# Altium footprint library pth-misc.PcbLib: 7 footprints
Each footprint in its own frame and in the unit in brackets; x right, y up, seen from the top. Pads: shape width x height; smd on the part's side, far side on the other; paste and mask are expansions set on the pad; w line width, h text height; cw(c..) or ccw(c..) is an arc to the next point about the centre after c.
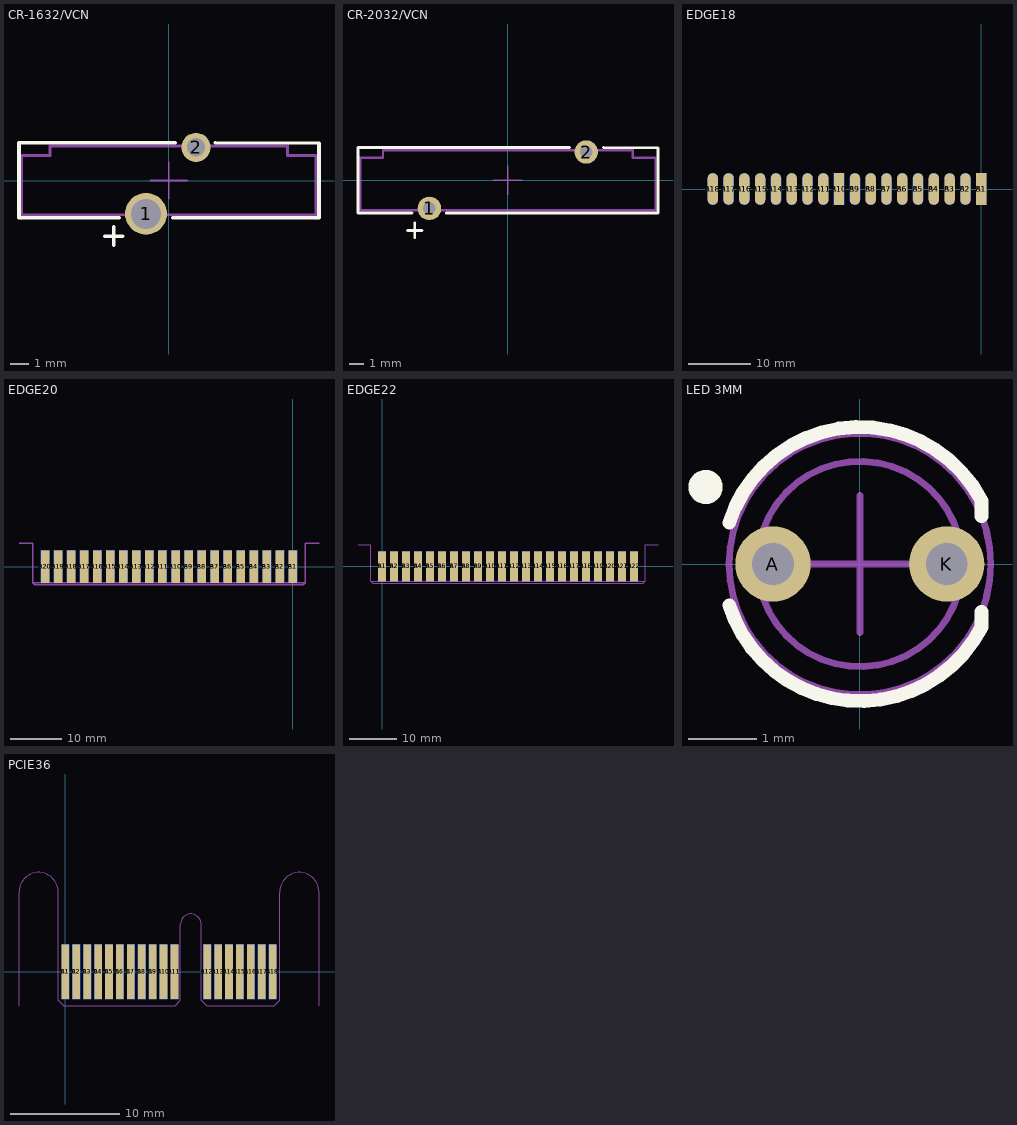
[diagram p0: the footprints below, top view; thin cyan lines are the x and y axes]

## CR-1632/VCN [mm] "PTH Battery 16mm Vertical"
height 16
pads (2):
  round 2.3 hole 1.65: 1(-1.25,-1.825)
  round 1.6 hole 1: 2(1.5,1.825)
Top Overlay:
  lines w0.2: -3.525,-3.05 -2.525,-3.05 ; -3.025,-3.55 -3.025,-2.55 ; -2.725,-2.05 -8.225,-2.05 -8.225,2.075 0.35,2.075 ; 0.225,-2.05 8.25,-2.05 8.25,2.05 2.55,2.086
Mechanical 1:
  lines w0.1: -8.05,-1.85 -8.05,1.35 -6.5,1.35 -6.5,1.875 6.5,1.875 6.5,1.35 8.05,1.35 8.05,-1.85 -8.05,-1.85
Mechanical 13:
  lines w0.1: -1,0 1,0 ; 0,-1 0,1
Mechanical 15:
  lines w0.1: -8.175,-1.9 8.125,-1.9 ; -8.1,-2.075 -8.1,1.4 -6.55,1.4 -6.55,1.925 6.55,1.925 6.55,1.4 8.1,1.4 8.1,-2.075
  text ".Designator" at -2.9,-0.4 h1
3D body "User Library-CR-1632.STEP": height 17.21, standoff -3.3, extent -8.01,-1.85 8.01,1.85

## CR-2032/VCN [mm] "PTH Battery 20mm Vertical"
height 25
pads (2):
  round 1.6 hole 0.85: 1(-5.35,-1.925) 2(5.35,1.925)
Top Overlay:
  lines w0.2: -10.225,-2.225 -6.525,-2.225 ; -10.225,-2.2 -10.225,2.225 4.2,2.225 ; -6.85,-3.425 -5.85,-3.425 ; -6.35,-3.925 -6.35,-2.925 ; -4.2,-2.225 10.25,-2.225 10.25,2.2 6.525,2.224
Mechanical 1:
  lines w0.1: -10.05,-2.025 -10.05,1.5 -8.5,1.5 -8.5,2.025 8.5,2.025 8.5,1.5 10.05,1.5 10.05,-2.025 -10.05,-2.025
Mechanical 13:
  lines w0.1: -1,0 1,0 ; 0,-1 0,1
Mechanical 15:
  lines w0.1: -10.1,-2.075 10.1,-2.075 10.1,1.55 8.55,1.55 8.55,2.075 -8.55,2.075 -8.55,1.55 -10.1,1.55 -10.1,-2.075
  text ".Designator" at -2.9,-0.4 h1
3D body "User Library-CR2032-VCN.STEP": height 22.01, standoff -4.51, extent -10.01,-2.025 10.01,2.025

## EDGE18 [mil]
pads (36):
  rect 65x200 smd: A1(0,0) A10(-900,0)
  oval 65x200 smd: A2(-100,0) A3(-200,0) A4(-300,0) A5(-400,0) A6(-500,0) A7(-600,0) A8(-700,0) A9(-800,0) A11(-1000,0) A12(-1100,0) A13(-1200,0) A14(-1300,0) A15(-1400,0) A16(-1500,0) A17(-1600,0) A18(-1700,0)
  rect 65x200 smd far side: B1(0,0) B10(-900,0)
  oval 65x200 smd far side: B2(-100,0) B3(-200,0) B4(-300,0) B5(-400,0) B6(-500,0) B7(-600,0) B8(-700,0) B9(-800,0) B11(-1000,0) B12(-1100,0) B13(-1200,0) B14(-1300,0) B15(-1400,0) B16(-1500,0) B17(-1600,0) B18(-1700,0)

## EDGE20 [mil]
pads (40):
  rect 65x250 smd: A1(0,0) A2(-100,0) A3(-200,0) A4(-300,0) A5(-400,0) A6(-500,0) A7(-600,0) A8(-700,0) A9(-800,0) A10(-900,0) A11(-1000,0) A12(-1100,0) A13(-1200,0) A14(-1300,0) A15(-1400,0) A16(-1500,0) A17(-1600,0) A18(-1700,0) A19(-1800,0) A20(-1900,0)
  rect 65x250 smd far side: B1(0,0) B2(-100,0) B3(-200,0) B4(-300,0) B5(-400,0) B6(-500,0) B7(-600,0) B8(-700,0) B9(-800,0) B10(-900,0) B11(-1000,0) B12(-1100,0) B13(-1200,0) B14(-1300,0) B15(-1400,0) B16(-1500,0) B17(-1600,0) B18(-1700,0) B19(-1800,0) B20(-1900,0)
Mechanical 13:
  lines w10: -2100,180 -1993,180 -1993,-125 ; 200,180 93,180 93,-125 ; -1993,-125 93,-125 ; -1993,-125 -1978,-140 78,-140 93,-125

## EDGE22 [mil] "Card Edge 22 Positions"
pads (44):
  rect 65x250 smd: A1(0,0) A2(100,0) A3(200,0) A4(300,0) A5(400,0) A6(500,0) A7(600,0) A8(700,0) A9(800,0) A10(900,0) A11(1000,0) A12(1100,0) A13(1200,0) A14(1300,0) A15(1400,0) A16(1500,0) A17(1600,0) A18(1700,0) A19(1800,0) A20(1900,0) A21(2000,0) A22(2100,0)
  rect 65x250 smd far side: B1(0,0) B2(100,0) B3(200,0) B4(300,0) B5(400,0) B6(500,0) B7(600,0) B8(700,0) B9(800,0) B10(900,0) B11(1000,0) B12(1100,0) B13(1200,0) B14(1300,0) B15(1400,0) B16(1500,0) B17(1600,0) B18(1700,0) B19(1800,0) B20(1900,0) B21(2000,0) B22(2100,0)
Mechanical 13:
  lines w10: -200,180 -93,180 -93,-125 -78,-140 2178,-140 2193,-125 ; -92.91,-125 2193,-125 ; 2300,180 2193,180 2193,-125

## LED 3MM [mm]
pads (2):
  round 1.1 hole 0.61: A(-1.27,0) K(1.27,0)
Top Overlay:
  circle w0.25: c-2.255,1.125 r0.125
  lines w0.2: -1.91,-0.603 ccw(c0,0) 1.776,-0.925 ; -1.91,0.603 cw(c0,0) 1.766,0.945 ; 1.775,-0.924 1.775,-0.7 ; 1.775,0.7 1.775,0.925
Mechanical 13:
  circle w0.1: c0,0 r1.5
  lines w0.1: -1,0 1,0 ; 0,-1 0,1
Mechanical 15:
  circle w0.1: c0,0 r1.91
  text ".Designator" at -1.869,-2.195 h0.5
3D body "SW3dPS-LEDd3G.STEP": height 5.51, standoff -2.49, extent -1.65,-1.644 1.65,1.644

## PCIE36 [mm]
pads (36):
  rect 0.7x5 smd far side: A1(0,0) A2(1,0) A3(2,0) A4(3,0) A5(4,0) A6(5,0) A7(6,0) A8(7,0) A9(8,0) A10(9,0) A11(10,0) A12(13,0) A13(14,0) A14(15,0) A15(16,0) A16(17,0) A17(18,0) A18(19,0)
  rect 0.7x5 smd: B1(0,0) B2(1,0) B3(2,0) B4(3,0) B5(4,0) B6(5,0) B7(6,0) B8(7,0) B9(8,0) B10(9,0) B11(10,0) B12(13,0) B13(14,0) B14(15,0) B15(16,0) B16(17,0) B17(18,0) B18(19,0)
Mechanical 15:
  lines w0.1: -4.25,-3.1 -4.25,7.3 cw(c-2.45,7.3) -0.65,7.3 -0.65,-2.6 -0.15,-3.1 10.05,-3.1 10.55,-2.6 10.55,4.35 cw(c11.5,4.35) 12.45,4.35 12.45,-2.6 12.95,-3.1 19.15,-3.1 19.65,-2.6 19.65,7.3 cw(c21.45,7.3) 23.25,7.3 23.25,-3.1